# EAGLE library part TC4432 (library Microchip-TC44xx)
IC, 1.5A High-Speed 30V MOSFET Drivers, DIP-8
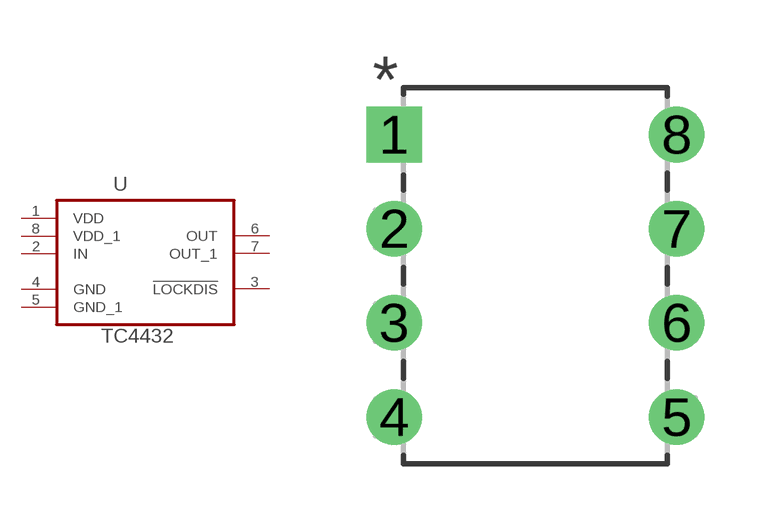
[diagram p9: symbol with the pads of DIP254P762X432-8; footprint DIP254P762X432-8]

Designator prefix U

## TC4432EPA (MPN: TC4432EPA; OC_FARNELL: 1852209; OC_NEWARK: 92C6147; PACKAGE: DIP-8; SUPPLIER: MICROCHIP)  [DIP254P762X432-8]
1  VDD  pwr
2  IN  in
3  !LOCKDIS  nc
4  GND  pas
5  GND_1  nc
6  OUT  out
7  OUT_1  out
8  VDD_1  in

## Footprint DIP254P762X432-8 (pad centres in mm)
drill 0.991 square: 1 -7.62,7.62
drill 0.991: 2 -7.62,5.08; 3 -7.62,2.54; 4 -7.62,0; 5 0,0; 6 0,2.54; 7 0,5.08; 8 0,7.62